# EAGLE library part SP724 (library di_ic)
TVS ARRAY ESD 4 INPUT SOT-23
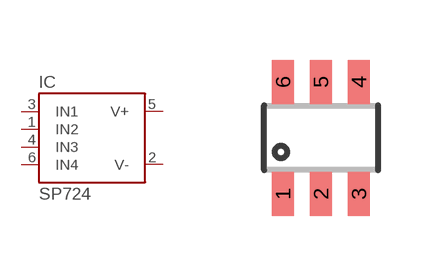
[diagram p37: symbol with the pads of SOT23-6; footprint SOT23-6]

Designator prefix IC

## SP724  [SOT23-6]
1  IN2  pas
2  V-  pwr
3  IN1  pas
4  IN3  pas
5  V+  pwr
6  IN4  pas

## Footprint SOT23-6 (pad centres in mm)
Small Outline Transistor
smd 0.55 x 1.1: 1 -0.95,-1.4; 2 0,-1.4; 3 0.95,-1.4; 4 0.95,1.4; 5 0,1.4; 6 -0.95,1.4